# EAGLE library part RESISTOR-ARRAY-4X (library GW-devices)
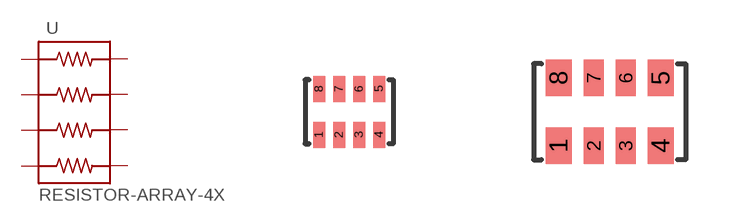
[diagram p37: symbol with the pads of YC124; footprints YC124, 3216-4X]

Designator prefix -

## RESISTOR-ARRAY-4X-YC124  [YC124]
1  1A  pas
2  2A  pas
3  3A  pas
4  4A  pas
5  4B  pas
6  3B  pas
7  2B  pas
8  1B  pas

## RESISTOR-ARRAY-4X-3216  [3216-4X]
Pads as for YC124

## Footprint YC124 (pad centres in mm)
smd 0.3 x 0.65: 1 -0.75,-0.575; 2 -0.25,-0.575; 3 0.25,-0.575; 4 0.75,-0.575; 5 0.75,0.575; 6 0.25,0.575; 7 -0.25,0.575; 8 -0.75,0.575

## Footprint 3216-4X (pad centres in mm)
smd 0.65 x 0.9: 1 -1.275,-0.85; 4 1.275,-0.85; 5 1.275,0.85; 8 -1.275,0.85
smd 0.5 x 0.9: 2 -0.4,-0.85; 3 0.4,-0.85; 6 0.4,0.85; 7 -0.4,0.85